# Altium schematic symbol library C0603C474K4PACTU.SchLib: 1 symbol
Pins are listed as number, name and electrical type; pins without a type are passive.

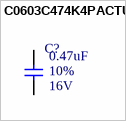
[diagram p0: symbol C0603C474K4PACTU]

## C0603C474K4PACTU
designator C?, comment Rated Voltage: 16V  Tolerance: 10%  Capacitence: 0.47uF  (hidden comment: 0.47uF, 16V, 10%)
CAP CER 0.47UF 16V X5R 0603; MFR: KEMET; ComponentLink1Description: Datasheet; ComponentLink1URL: www.google.com; Temperature Coefficient: X5R; Package: 0603; Footprint: C0603; Supplier 1: Digi-Key; Supplier Part Number 1: 399-7934-1-ND
footprint C0603 (Generic C0603 Footprint)
pins: 1, 2